# Altium integrated library con-jst.IntLib: 24 symbols
Pins are listed as number, name and electrical type; pins without a type are passive.

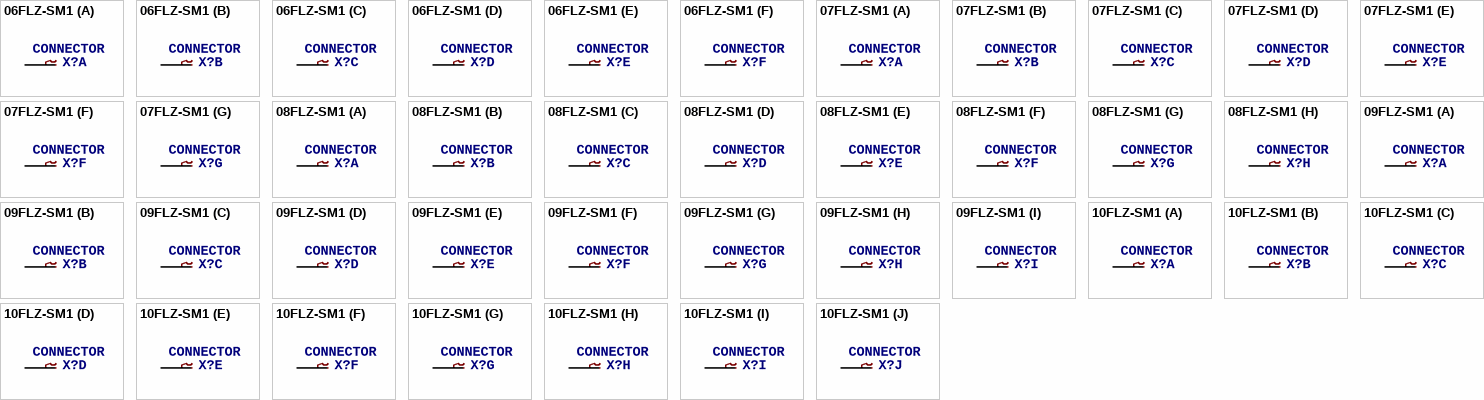
[diagram p0: symbols 06FLZ-SM1 to 10FLZ-SM1]

## 06FLZ-SM1
designator X?, comment CONNECTOR
OC_FARNELL: unknown; OC_NEWARK: unknown
footprint 6FLZ-SM
part A pins: 1
part B pins: 2 1
part C pins: 3 1
part D pins: 4 1
part E pins: 5 1
part F pins: 6 1

## 07FLZ-SM1
designator X?, comment CONNECTOR
OC_FARNELL: unknown; OC_NEWARK: unknown
footprint 7FLZ-SM
part A pins: 1
part B pins: 2 1
part C pins: 3 1
part D pins: 4 1
part E pins: 5 1
part F pins: 6 1
part G pins: 7 1

## 08FLZ-SM1
designator X?, comment CONNECTOR
OC_FARNELL: unknown; OC_NEWARK: unknown
footprint 8FLZ-SM
part A pins: 1
part B pins: 2 1
part C pins: 3 1
part D pins: 4 1
part E pins: 5 1
part F pins: 6 1
part G pins: 7 1
part H pins: 8 1

## 09FLZ-SM1
designator X?, comment CONNECTOR
OC_FARNELL: unknown; OC_NEWARK: unknown
footprint 9FLZ-SM
part A pins: 1
part B pins: 2 1
part C pins: 3 1
part D pins: 4 1
part E pins: 5 1
part F pins: 6 1
part G pins: 7 1
part H pins: 8 1
part I pins: 9 1

## 10FLZ-SM1
designator X?, comment CONNECTOR
OC_FARNELL: unknown; OC_NEWARK: unknown
footprint 10FLZ-SM
part A pins: 1
part B pins: 2 1
part C pins: 3 1
part D pins: 4 1
part E pins: 5 1
part F pins: 6 1
part G pins: 7 1
part H pins: 8 1
part I pins: 9 1
part J pins: 10 1

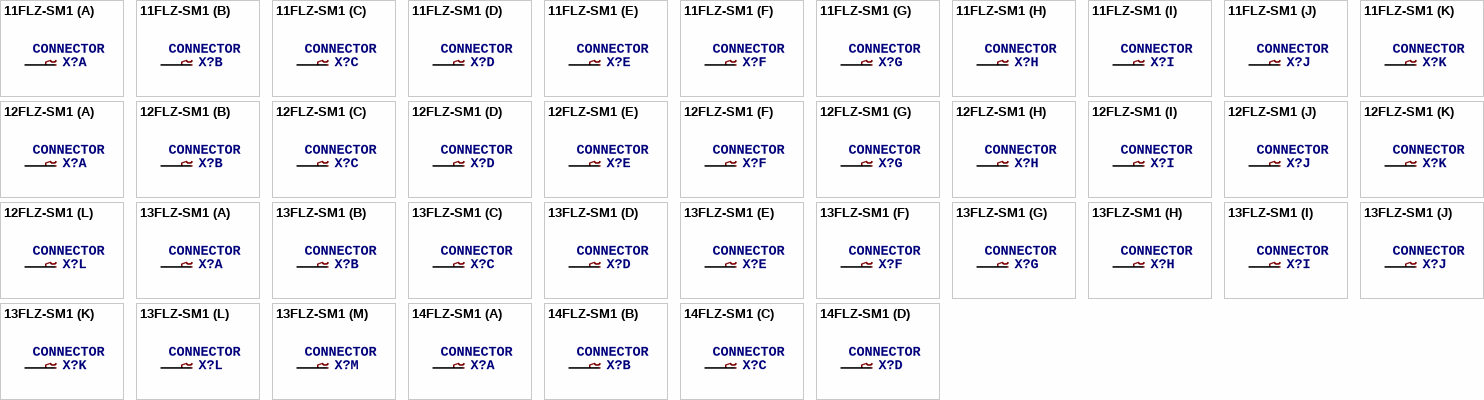
[diagram p1: symbols 11FLZ-SM1 to 14FLZ-SM1]

## 11FLZ-SM1
designator X?, comment CONNECTOR
OC_FARNELL: unknown; OC_NEWARK: unknown
footprint 11FLZ-SM
part A pins: 1
part B pins: 2 1
part C pins: 3 1
part D pins: 4 1
part E pins: 5 1
part F pins: 6 1
part G pins: 7 1
part H pins: 8 1
part I pins: 9 1
part J pins: 10 1
part K pins: 11 1

## 12FLZ-SM1
designator X?, comment CONNECTOR
OC_FARNELL: unknown; OC_NEWARK: unknown
footprint 12FLZ-SM
part A pins: 1
part B pins: 2 1
part C pins: 3 1
part D pins: 4 1
part E pins: 5 1
part F pins: 6 1
part G pins: 7 1
part H pins: 8 1
part I pins: 9 1
part J pins: 10 1
part K pins: 11 1
part L pins: 12 1

## 13FLZ-SM1
designator X?, comment CONNECTOR
OC_FARNELL: unknown; OC_NEWARK: unknown
footprint 13FLZ-SM
part A pins: 1
part B pins: 2 1
part C pins: 3 1
part D pins: 4 1
part E pins: 5 1
part F pins: 6 1
part G pins: 7 1
part H pins: 8 1
part I pins: 9 1
part J pins: 10 1
part K pins: 11 1
part L pins: 12 1
part M pins: 13 1

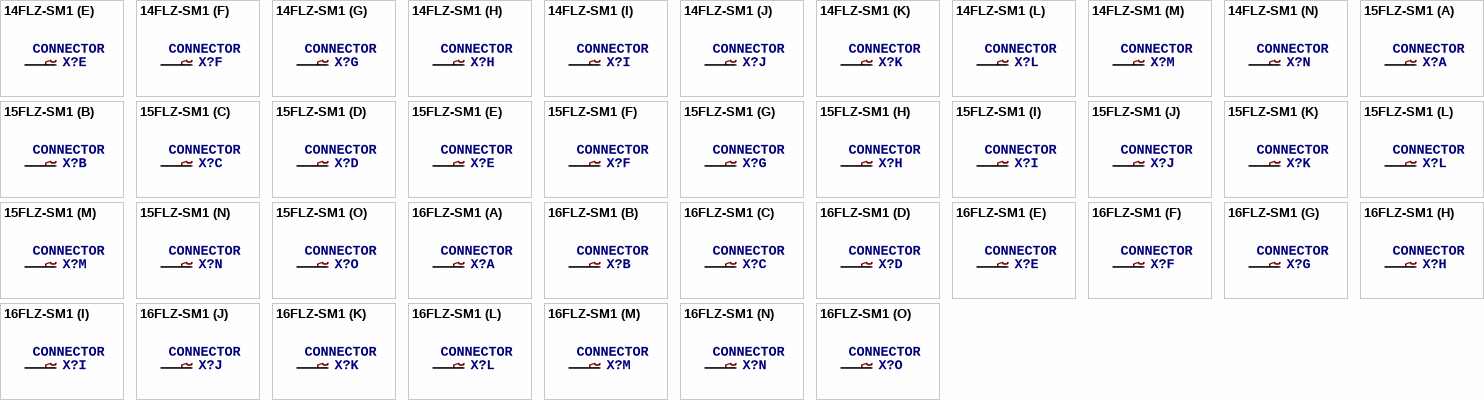
[diagram p2: symbols 14FLZ-SM1 to 16FLZ-SM1]

## 14FLZ-SM1
designator X?, comment CONNECTOR
OC_FARNELL: unknown; OC_NEWARK: unknown
footprint 14FLZ-SM
part A pins: 1
part B pins: 2 1
part C pins: 3 1
part D pins: 4 1
part E pins: 5 1
part F pins: 6 1
part G pins: 7 1
part H pins: 8 1
part I pins: 9 1
part J pins: 10 1
part K pins: 11 1
part L pins: 12 1
part M pins: 13 1
part N pins: 14 1

## 15FLZ-SM1
designator X?, comment CONNECTOR
OC_FARNELL: unknown; OC_NEWARK: unknown
footprint 15FLZ-SM
part A pins: 1
part B pins: 2 1
part C pins: 3 1
part D pins: 4 1
part E pins: 5 1
part F pins: 6 1
part G pins: 7 1
part H pins: 8 1
part I pins: 9 1
part J pins: 10 1
part K pins: 11 1
part L pins: 12 1
part M pins: 13 1
part N pins: 14 1
part O pins: 15 1

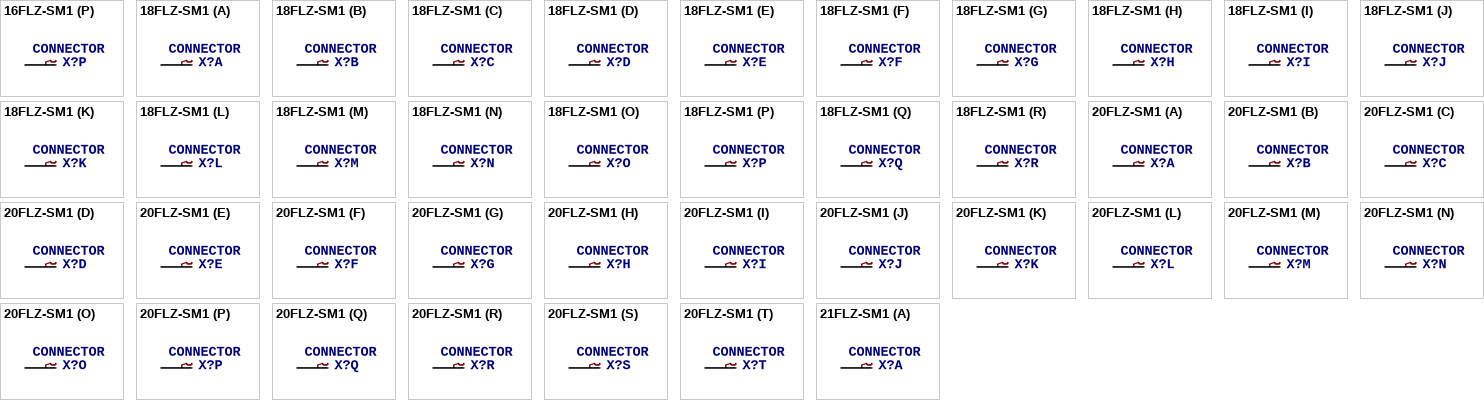
[diagram p3: symbols 16FLZ-SM1 to 21FLZ-SM1]

## 16FLZ-SM1
designator X?, comment CONNECTOR
OC_FARNELL: unknown; OC_NEWARK: unknown
footprint 16FLZ-SM
part A pins: 1
part B pins: 2 1
part C pins: 3 1
part D pins: 4 1
part E pins: 5 1
part F pins: 6 1
part G pins: 7 1
part H pins: 8 1
part I pins: 9 1
part J pins: 10 1
part K pins: 11 1
part L pins: 12 1
part M pins: 13 1
part N pins: 14 1
part O pins: 15 1
part P pins: 16 1

## 18FLZ-SM1
designator X?, comment CONNECTOR
OC_FARNELL: unknown; OC_NEWARK: unknown
footprint 18FLZ-SM
part A pins: 1
part B pins: 2 1
part C pins: 3 1
part D pins: 4 1
part E pins: 5 1
part F pins: 6 1
part G pins: 7 1
part H pins: 8 1
part I pins: 9 1
part J pins: 10 1
part K pins: 11 1
part L pins: 12 1
part M pins: 13 1
part N pins: 14 1
part O pins: 15 1
part P pins: 16 1
part Q pins: 17 1
part R pins: 18 1

## 20FLZ-SM1
designator X?, comment CONNECTOR
OC_FARNELL: unknown; OC_NEWARK: unknown
footprint 20FLZ-SM
part A pins: 1
part B pins: 2 1
part C pins: 3 1
part D pins: 4 1
part E pins: 5 1
part F pins: 6 1
part G pins: 7 1
part H pins: 8 1
part I pins: 9 1
part J pins: 10 1
part K pins: 11 1
part L pins: 12 1
part M pins: 13 1
part N pins: 14 1
part O pins: 15 1
part P pins: 16 1
part Q pins: 17 1
part R pins: 18 1
part S pins: 19 1
part T pins: 20 1

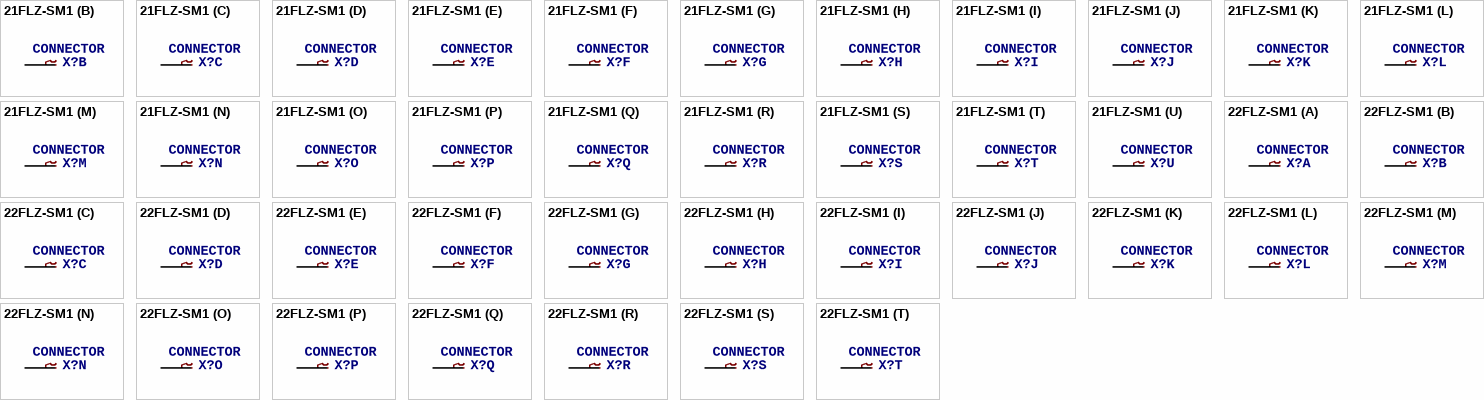
[diagram p4: symbols 21FLZ-SM1 to 22FLZ-SM1]

## 21FLZ-SM1
designator X?, comment CONNECTOR
OC_FARNELL: unknown; OC_NEWARK: unknown
footprint 21FLZ-SM
part A pins: 1
part B pins: 2 1
part C pins: 3 1
part D pins: 4 1
part E pins: 5 1
part F pins: 6 1
part G pins: 7 1
part H pins: 8 1
part I pins: 9 1
part J pins: 10 1
part K pins: 11 1
part L pins: 12 1
part M pins: 13 1
part N pins: 14 1
part O pins: 15 1
part P pins: 16 1
part Q pins: 17 1
part R pins: 18 1
part S pins: 19 1
part T pins: 20 1
part U pins: 21 1

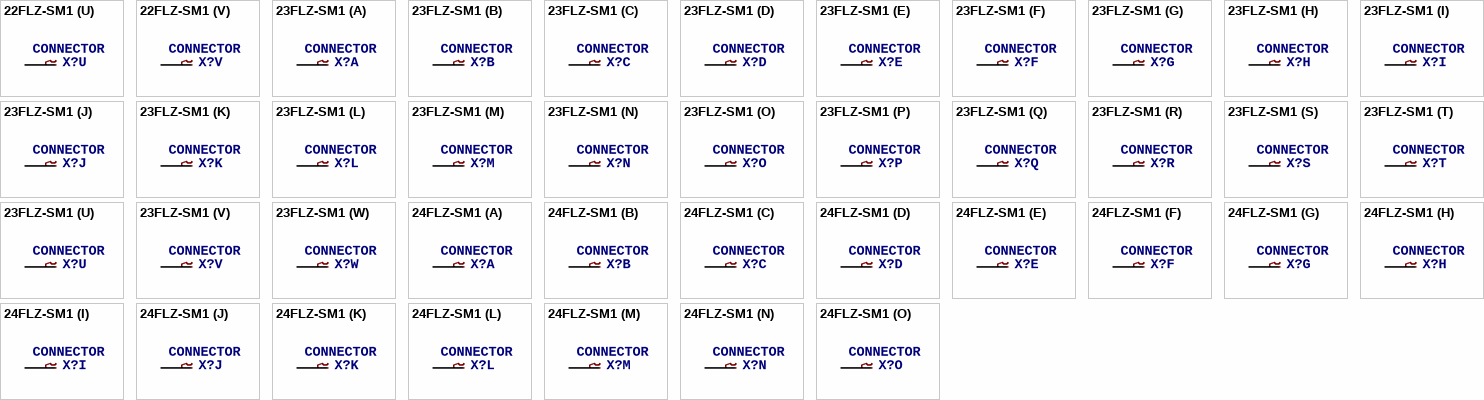
[diagram p5: symbols 22FLZ-SM1 to 24FLZ-SM1]

## 22FLZ-SM1
designator X?, comment CONNECTOR
OC_FARNELL: unknown; OC_NEWARK: unknown
footprint 22FLZ-SM
part A pins: 1
part B pins: 2 1
part C pins: 3 1
part D pins: 4 1
part E pins: 5 1
part F pins: 6 1
part G pins: 7 1
part H pins: 8 1
part I pins: 9 1
part J pins: 10 1
part K pins: 11 1
part L pins: 12 1
part M pins: 13 1
part N pins: 14 1
part O pins: 15 1
part P pins: 16 1
part Q pins: 17 1
part R pins: 18 1
part S pins: 19 1
part T pins: 20 1
part U pins: 21 1
part V pins: 22 1

## 23FLZ-SM1
designator X?, comment CONNECTOR
OC_FARNELL: unknown; OC_NEWARK: unknown
footprint 23FLZ-SM
part A pins: 1
part B pins: 2 1
part C pins: 3 1
part D pins: 4 1
part E pins: 5 1
part F pins: 6 1
part G pins: 7 1
part H pins: 8 1
part I pins: 9 1
part J pins: 10 1
part K pins: 11 1
part L pins: 12 1
part M pins: 13 1
part N pins: 14 1
part O pins: 15 1
part P pins: 16 1
part Q pins: 17 1
part R pins: 18 1
part S pins: 19 1
part T pins: 20 1
part U pins: 21 1
part V pins: 22 1
part W pins: 23 1

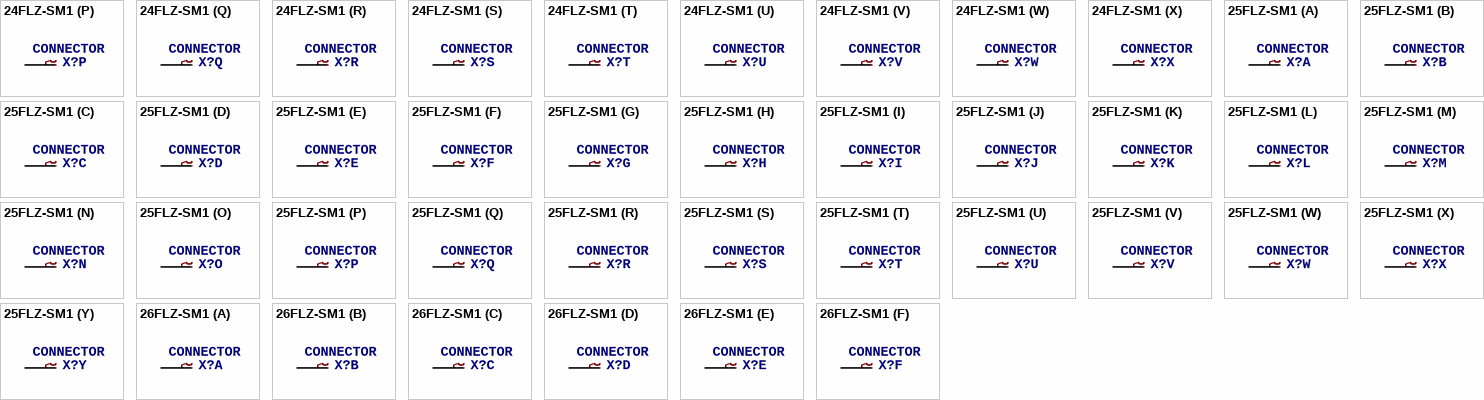
[diagram p6: symbols 24FLZ-SM1 to 26FLZ-SM1]

## 24FLZ-SM1
designator X?, comment CONNECTOR
OC_FARNELL: unknown; OC_NEWARK: unknown
footprint 24FLZ-SM
part A pins: 1
part B pins: 2 1
part C pins: 3 1
part D pins: 4 1
part E pins: 5 1
part F pins: 6 1
part G pins: 7 1
part H pins: 8 1
part I pins: 9 1
part J pins: 10 1
part K pins: 11 1
part L pins: 12 1
part M pins: 13 1
part N pins: 14 1
part O pins: 15 1
part P pins: 16 1
part Q pins: 17 1
part R pins: 18 1
part S pins: 19 1
part T pins: 20 1
part U pins: 21 1
part V pins: 22 1
part W pins: 23 1
part X pins: 24 1

## 25FLZ-SM1
designator X?, comment CONNECTOR
OC_FARNELL: unknown; OC_NEWARK: unknown
footprint 25FLZ-SM
part A pins: 1
part B pins: 2 1
part C pins: 3 1
part D pins: 4 1
part E pins: 5 1
part F pins: 6 1
part G pins: 7 1
part H pins: 8 1
part I pins: 9 1
part J pins: 10 1
part K pins: 11 1
part L pins: 12 1
part M pins: 13 1
part N pins: 14 1
part O pins: 15 1
part P pins: 16 1
part Q pins: 17 1
part R pins: 18 1
part S pins: 19 1
part T pins: 20 1
part U pins: 21 1
part V pins: 22 1
part W pins: 23 1
part X pins: 24 1
part Y pins: 25 1

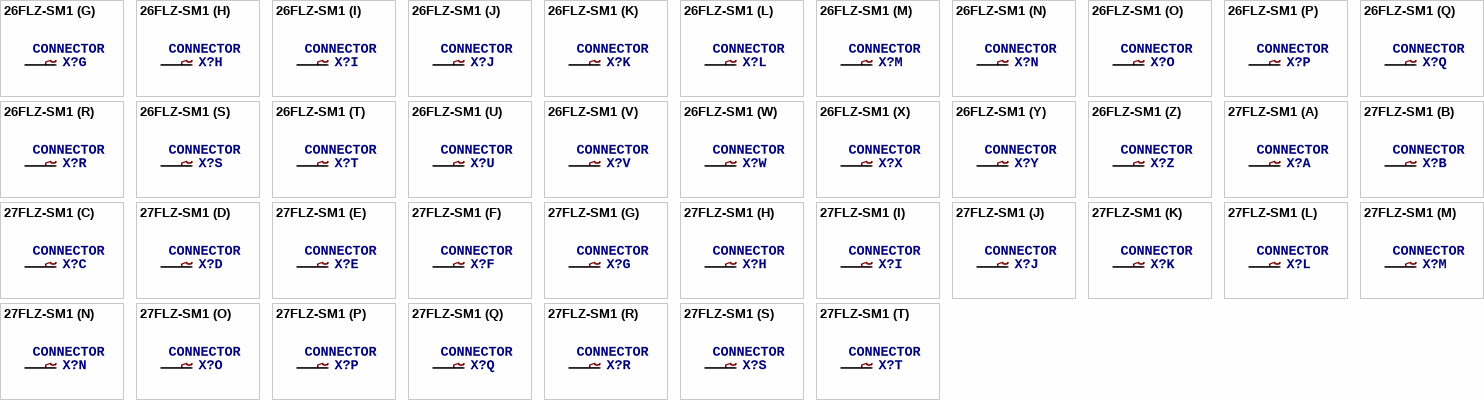
[diagram p7: symbols 26FLZ-SM1 to 27FLZ-SM1]

## 26FLZ-SM1
designator X?, comment CONNECTOR
OC_FARNELL: unknown; OC_NEWARK: unknown
footprint 26FLZ-SM
part A pins: 1
part B pins: 2 1
part C pins: 3 1
part D pins: 4 1
part E pins: 5 1
part F pins: 6 1
part G pins: 7 1
part H pins: 8 1
part I pins: 9 1
part J pins: 10 1
part K pins: 11 1
part L pins: 12 1
part M pins: 13 1
part N pins: 14 1
part O pins: 15 1
part P pins: 16 1
part Q pins: 17 1
part R pins: 18 1
part S pins: 19 1
part T pins: 20 1
part U pins: 21 1
part V pins: 22 1
part W pins: 23 1
part X pins: 24 1
part Y pins: 25 1
part Z pins: 26 1

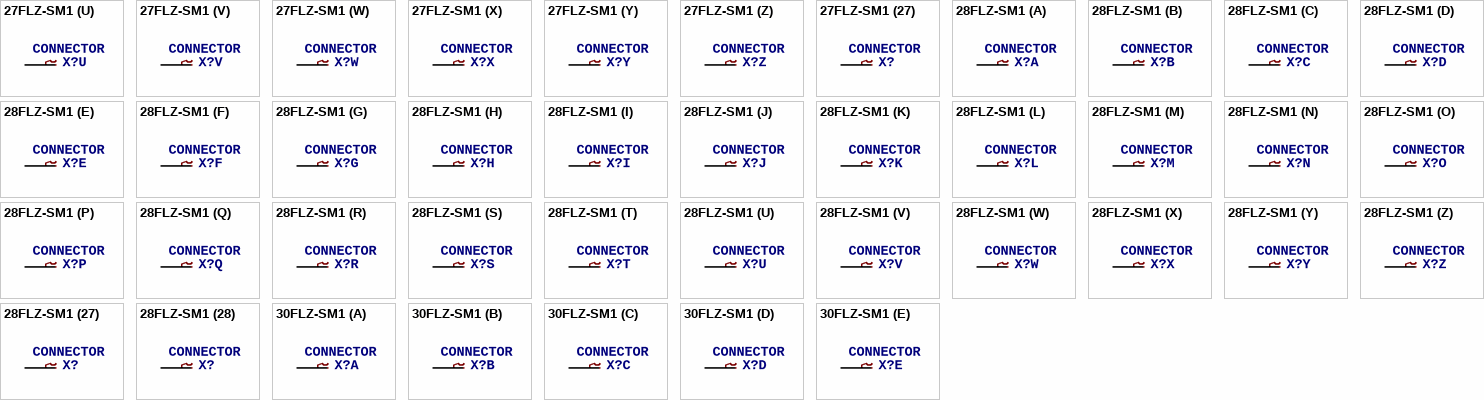
[diagram p8: symbols 27FLZ-SM1 to 30FLZ-SM1]

## 27FLZ-SM1
designator X?, comment CONNECTOR
OC_FARNELL: unknown; OC_NEWARK: unknown
footprint 27FLZ-SM
part A pins: 1
part B pins: 2 1
part C pins: 3 1
part D pins: 4 1
part E pins: 5 1
part F pins: 6 1
part G pins: 7 1
part H pins: 8 1
part I pins: 9 1
part J pins: 10 1
part K pins: 11 1
part L pins: 12 1
part M pins: 13 1
part N pins: 14 1
part O pins: 15 1
part P pins: 16 1
part Q pins: 17 1
part R pins: 18 1
part S pins: 19 1
part T pins: 20 1
part U pins: 21 1
part V pins: 22 1
part W pins: 23 1
part X pins: 24 1
part Y pins: 25 1
part Z pins: 26 1
part 27 pins: 27 1

## 28FLZ-SM1
designator X?, comment CONNECTOR
OC_FARNELL: unknown; OC_NEWARK: unknown
footprint 28FLZ-SM
part A pins: 1
part B pins: 2 1
part C pins: 3 1
part D pins: 4 1
part E pins: 5 1
part F pins: 6 1
part G pins: 7 1
part H pins: 8 1
part I pins: 9 1
part J pins: 10 1
part K pins: 11 1
part L pins: 12 1
part M pins: 13 1
part N pins: 14 1
part O pins: 15 1
part P pins: 16 1
part Q pins: 17 1
part R pins: 18 1
part S pins: 19 1
part T pins: 20 1
part U pins: 21 1
part V pins: 22 1
part W pins: 23 1
part X pins: 24 1
part Y pins: 25 1
part Z pins: 26 1
part 27 pins: 27 1
part 28 pins: 28 1

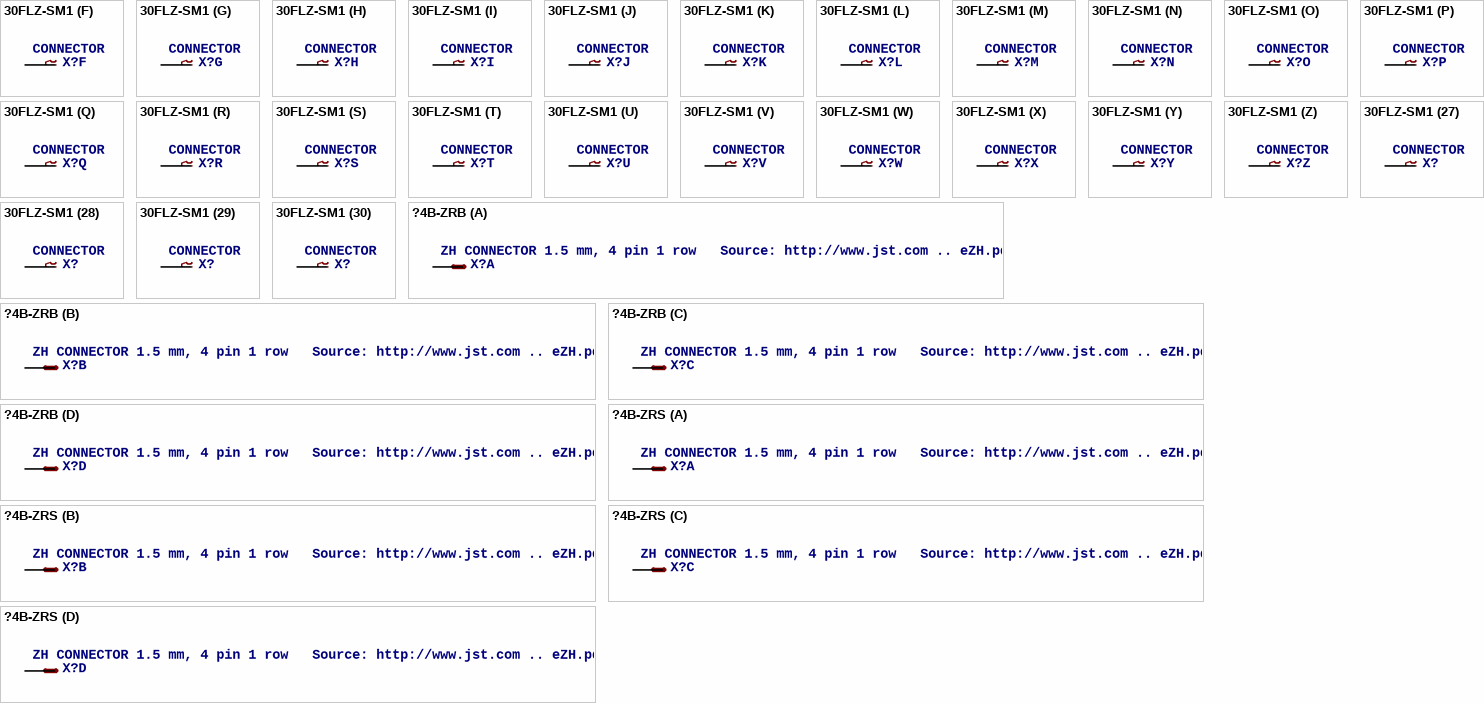
[diagram p9: symbols 30FLZ-SM1 to ?4B-ZRS]

## 30FLZ-SM1
designator X?, comment CONNECTOR
OC_FARNELL: unknown; OC_NEWARK: unknown
footprint 30FLZ-SM
part A pins: 1
part B pins: 2 1
part C pins: 3 1
part D pins: 4 1
part E pins: 5 1
part F pins: 6 1
part G pins: 7 1
part H pins: 8 1
part I pins: 9 1
part J pins: 10 1
part K pins: 11 1
part L pins: 12 1
part M pins: 13 1
part N pins: 14 1
part O pins: 15 1
part P pins: 16 1
part Q pins: 17 1
part R pins: 18 1
part S pins: 19 1
part T pins: 20 1
part U pins: 21 1
part V pins: 22 1
part W pins: 23 1
part X pins: 24 1
part Y pins: 25 1
part Z pins: 26 1
part 27 pins: 27 1
part 28 pins: 28 1
part 29 pins: 29 1
part 30 pins: 30 1

## ?4B-ZRB
designator X?, comment ZH CONNECTOR 1.5 mm, 4 pin 1 row   Source: http://www.jst.com .. eZH.pdf
MPN: B4B-ZR(LF)(SN); MF: FARNELL; OC_FARNELL: 1830916; OC_NEWARK: 37K9960
footprint B4B-ZR
part A pins: 1
part B pins: 2 1
part C pins: 3 1
part D pins: 4 1

## ?4B-ZRS
designator X?, comment ZH CONNECTOR 1.5 mm, 4 pin 1 row   Source: http://www.jst.com .. eZH.pdf
MPN: S4B-ZR(LF)(SN); MF: FARNELL; OC_FARNELL: 9491830; OC_NEWARK: 38K8076
footprint S4B-ZR
part A pins: 1
part B pins: 2 1
part C pins: 3 1
part D pins: 4 1